# Altium schematic symbol library D Schottky.Schlib: 1 symbol
Pins are listed as number, name and electrical type; pins without a type are passive.

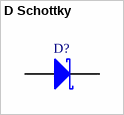
[diagram p0: symbol D Schottky]

## D Schottky
designator D?
Schottky Diode
pins: A, K